# Altium footprint library WISP_AD10.PcbLib: 70 footprints (part 4 of 5)
Each footprint in its own frame and in the unit in brackets; x right, y up, seen from the top. Pads: shape width x height; smd on the part's side, far side on the other; paste and mask are expansions set on the pad; w line width, h text height; cw(c..) or ccw(c..) is an arc to the next point about the centre after c.
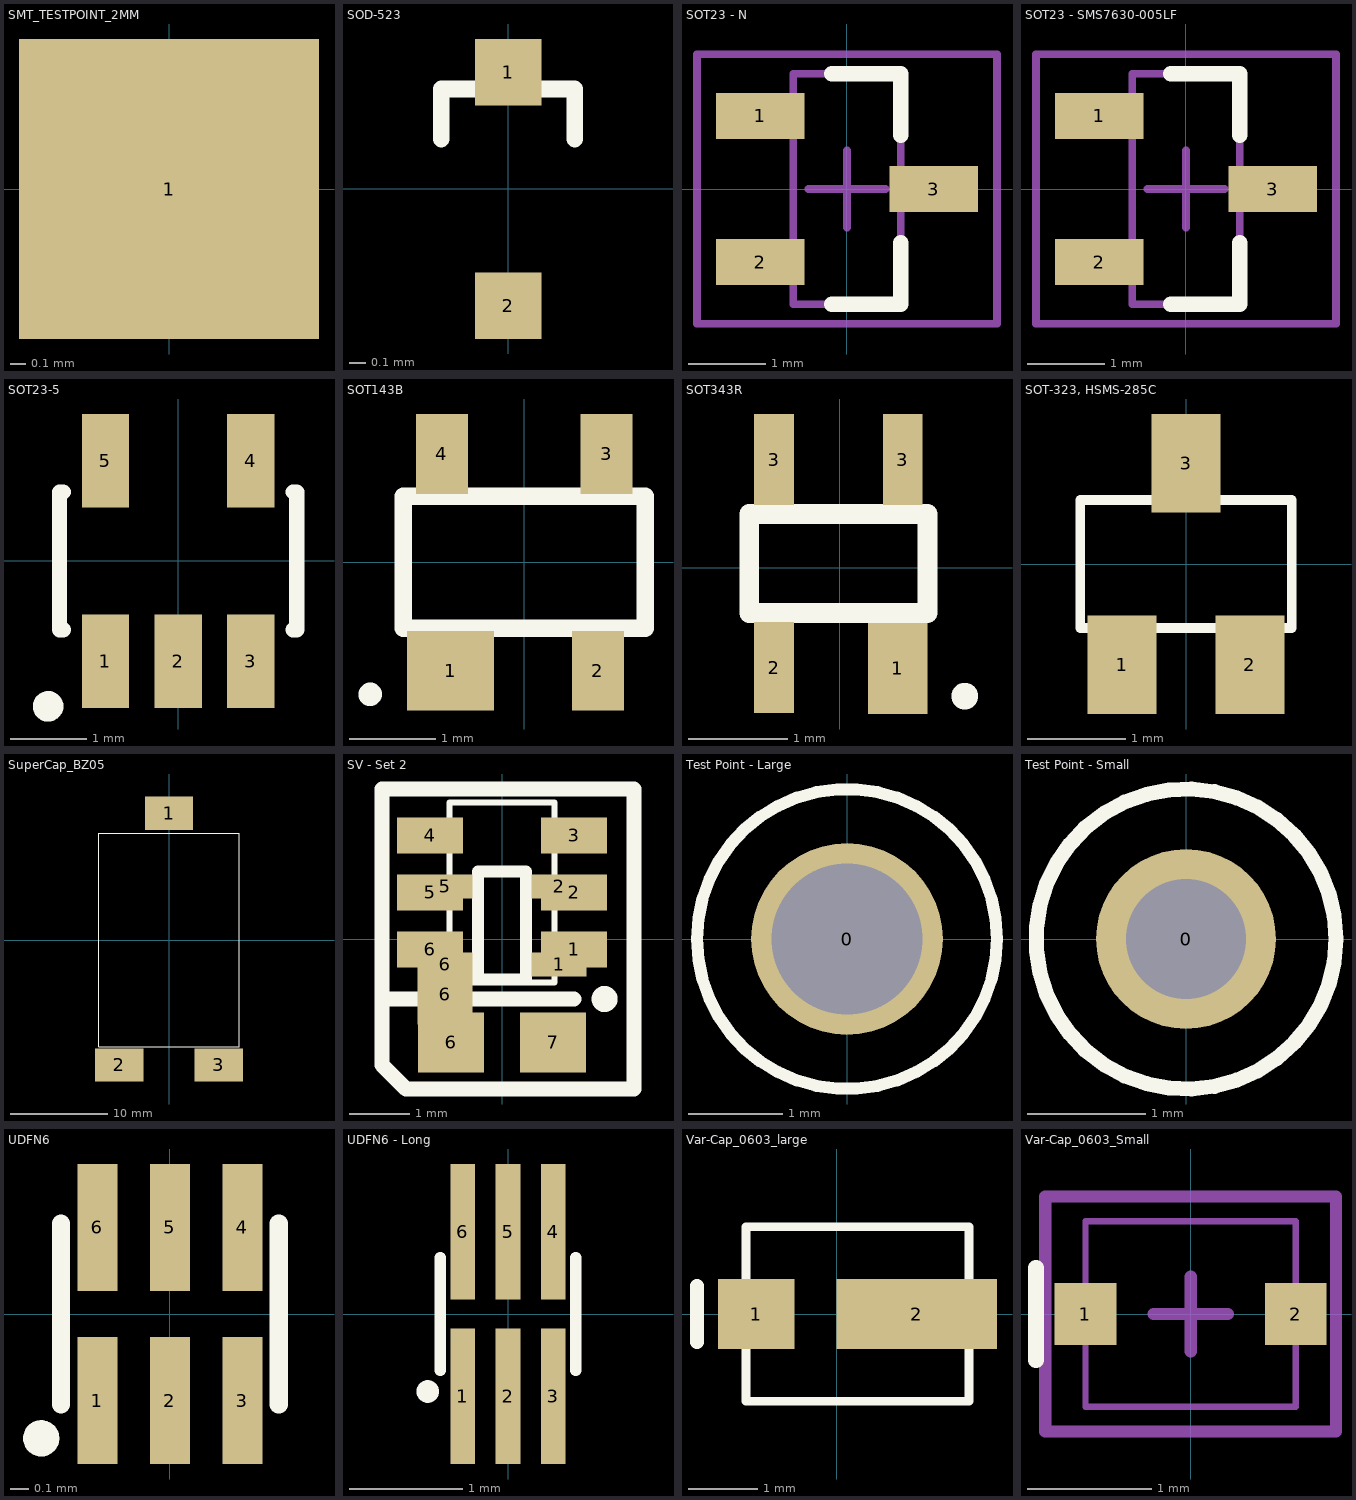
[diagram p3: the footprints below, top view; thin cyan lines are the x and y axes]

## SMT_TESTPOINT_2MM [mm]
pads (1):
  rect 2x2 smd: 1(0,0)

## SOD-523 [mm] "SOD-523 Footprint"
height 1
pads (2):
  rect 0.4x0.4 smd: 1(0,0.7) 2(0,-0.7)
Top Overlay:
  lines w0.1: -0.401,0.3 -0.401,0.6 0.399,0.6 0.399,0.3
Mechanical 13:
  text ".Designator" at -0.15,0.425 h0.25
3D body: height 1, standoff 0, extent -0.4,-0.6 0.4,0.6

## SOT23 - N [mm] "SOT23, 3-Leads, Body 2.9x1.3mm, Pitch 0.95mm, Lead Span 2.3mm - Reverse Pinning, IPC Medium Density"
height 1.1
pads (3):
  rect 1.15x0.6 smd: 1(-1.125,0.95) 2(-1.125,-0.95) 3(1.125,0)
Top Overlay:
  lines w0.2: -0.2,-1.5 0.7,-1.5 0.7,-0.7 ; -0.2,1.5 0.7,1.5 0.7,0.7
Mechanical 13:
  lines w0.1: -0.7,-1.5 0.7,-1.5 0.7,1.5 -0.7,1.5 -0.7,-1.5
Mechanical 15:
  lines w0.1: -0.5,0 0.5,0 ; 0,-0.5 0,0.5 ; -1.95,-1.75 1.95,-1.75 1.95,1.75 -1.95,1.75 -1.95,-1.75
3D body: height 1.1, standoff 0, extent -0.7,-1.5 0.7,1.5

## SOT23 - SMS7630-005LF [mm] "SOT23, 3-Leads, Body 2.9x1.3mm, Pitch 0.95mm, Lead Span 2.3mm - Reverse Pinning, IPC Medium Density"
height 1.1
pads (3):
  rect 1.15x0.6 smd: 1(-1.125,0.95) 2(-1.125,-0.95) 3(1.125,0)
Top Overlay:
  lines w0.2: -0.2,-1.5 0.7,-1.5 0.7,-0.7 ; -0.2,1.5 0.7,1.5 0.7,0.7
Mechanical 13:
  lines w0.1: -0.7,-1.5 0.7,-1.5 0.7,1.5 -0.7,1.5 -0.7,-1.5
Mechanical 15:
  lines w0.1: -0.5,0 0.5,0 ; 0,-0.5 0,0.5 ; -1.95,-1.75 1.95,-1.75 1.95,1.75 -1.95,1.75 -1.95,-1.75
3D body: height 1.1, standoff 0, extent -0.7,-1.5 0.7,1.5

## SOT23-5 [mm] "SOT23-5"
height 1.27
pads (5):
  rect 0.62x1.22 smd: 1(-0.95,-1.31) 2(0,-1.31) 3(0.95,-1.31) 4(0.95,1.31) 5(-0.95,1.31)
Top Overlay:
  circle w0.2: c-1.7,-1.9 r0.1
  lines w0.2: -1.5,-0.9 -1.55,-0.9 -1.55,0.9 -1.5,0.9 ; 1.5,-0.9 1.55,-0.9 1.55,0.9 1.5,0.9
Mechanical 13:
  text ".Designator" at -1.25,-0.375 h0.38
3D body: height 1, standoff 0, extent -1.55,-0.9 1.55,0.9

## SOT143B [mm] "SOT343R - Package for BF1101WR"
height 1.1
pads (4):
  rect 1x0.92 smd: 1(-0.85,-1.25)
  rect 0.6x0.92 smd: 2(0.85,-1.25) 3(0.95,1.25) 4(-0.95,1.25)
Top Overlay:
  circle w0.254: c-1.778,-1.524 r0.008
  lines w0.2: -1.397,-0.762 1.397,-0.762 1.397,0.762 -1.397,0.762 -1.397,-0.762

## SOT343R [mm] "SOT343R - Package for BF1101WR"
height 1.1
pads (4):
  rect 0.6x0.92 smd: 1(0.584,-1.016)
  rect 0.4x0.92 smd: 2(-0.664,-1.007) 3(-0.664,1.093) 3(0.636,1.093)
Top Overlay:
  circle w0.254: c1.262,-1.295 r0.008
  lines w0.2: -0.914,-0.457 0.886,-0.457 0.886,0.543 -0.914,0.543 -0.914,-0.457

## SOT-323, HSMS-285C [mm] "SOT-323/SC-70; 3 Leads; HSMS-285C"
height 1
pads (3):
  rect 0.7x1 smd: 1(-0.65,-1.025) 2(0.65,-1.025) 3(0,1.025)
Top Overlay:
  lines w0.1: -1.075,-0.65 -1.075,0.65 1.075,0.65 1.075,-0.65 -1.075,-0.65
Mechanical 13:
  text ".Designator" at -0.9,-0.275 h0.38
3D body: height 1, standoff 0, extent -1.075,-0.65 1.075,0.65

## SuperCap_BZ05 [mil] "SOT-323/SC-70; 3 Leads; HSMS-285C"
height 39.37
pads (3):
  rect 197x138 smd: 1(0,515.75)
  rect 197x134 smd: 2(-202.76,-506.89) 3(202.76,-506.89)
Top Overlay:
  lines w3.94: -285.44,-434.06 -285.44,434.05 285.44,434.05 285.44,-434.06 -285.43,-434.06
3D body: height 40, standoff 0, extent -285.44,-434.06 285.44,434.05

## SV - Set 2 [mm] "S-1000 (SOT-23-5, SC-82);  S1009 (SOT-23-5);  XC61C (SC-82, SOT-23);  NCP300 (SOT-23-5)"
pads (13):
  rect 0.92x0.4 smd: 1(0.95,-0.425) 2(0.95,0.875) 5(-0.95,0.875) 6(-0.95,-0.425)
  rect 1.1x0.6 smd: 1(1.2,-0.175) 2(1.2,0.775) 3(1.2,1.725) 4(-1.2,1.725) 5(-1.2,0.775) 6(-1.2,-0.175)
  rect 0.92x1 smd: 6(-0.95,-0.925)
  rect 1.1x1 smd: 6(-0.85,-1.725) 7(0.85,-1.725)
Top Overlay:
  circle w0.254: c1.71,-1 r0.09
  lines w0.1: -0.875,-0.725 0.875,-0.725 0.875,2.275 -0.875,2.275 -0.875,-0.725
  lines w0.2: 0.4,-0.675 -0.4,-0.675 -0.4,1.125 0.4,1.125 0.4,-0.675
  lines w0.254: -2,-1 1.2,-1 ; -2,-2.1 -1.6,-2.5 2.2,-2.5 2.2,2.5 -2,2.5 -2,-2.1

## Test Point - Large [mil] "Test Point, 63mil hole, example DK: 5012K-ND"
pads (1):
  round 80 hole 63: 0(0,0)
Top Overlay:
  circle w5: c0,0 r62.5

## Test Point - Small [mil] "Test Point, 40mil hole, example DK: 5000K-ND"
pads (1):
  round 60 hole 40: 0(0,0)
Top Overlay:
  circle w5: c0,0 r50

## UDFN6 [mm] "UDFN6 - Level Shifter -  NLSV1T244"
height 0.5
pads (6):
  rect 0.22x0.7 smd: 1(-0.4,-0.477) 2(0,-0.477) 3(0.4,-0.477) 4(0.4,0.477) 5(0,0.477) 6(-0.4,0.477)
Top Overlay:
  circle w0.1: c-0.71,-0.686 r0.05
  lines w0.1: -0.6,-0.5 -0.6,0.5 ; 0.6,-0.5 0.6,0.5

## UDFN6 - Long [mm] "UDFN6 - Level Shifter -  NLSV1T244"
height 0.5
pads (6):
  rect 0.22x1.2 smd: 1(-0.4,-0.727) 2(0,-0.727) 3(0.4,-0.727) 4(0.4,0.727) 5(0,0.727) 6(-0.4,0.727)
Top Overlay:
  circle w0.1: c-0.71,-0.686 r0.05
  lines w0.1: -0.6,-0.5 -0.6,0.5 ; 0.6,-0.5 0.6,0.5

## Var-Cap_0603_large [mm] "Var-Cap 603 Compatible, DK: 490-2009 & SG2026CT"
height 1.3
pads (2):
  rect 1.1x1 smd: 1(-1.15,0)
  rect 2.3x1 smd: 2(1.15,0)
Top Overlay:
  lines w0.127: -1.3,-1.25 1.9,-1.25 1.9,1.25 -1.3,1.25 -1.3,-1.25
  lines w0.2: -2,-0.4 -2,0.4

## Var-Cap_0603_Small [mm] "Var-Cap 0603 Compatible High-Q, DK#490-2011-1-ND"
height 0.6
pads (2):
  rect 0.5x0.5 smd: 1(-0.85,0) 2(0.85,0)
Top Overlay:
  lines w0.127: -1.25,-0.375 -1.25,0.375
Mechanical 13:
  lines w0.051: 0.85,-0.75 -0.85,-0.75 -0.85,0.75 0.85,0.75 0.85,-0.725
Mechanical 15:
  lines w0.1: -0.3,0 0.3,0 ; 0,-0.3 0,0.3 ; -1.175,-0.95 -1.175,0.95 1.175,0.95 1.175,-0.95 -1.175,-0.95
3D body: height 0.8, standoff 0, extent -0.85,-0.75 0.85,0.75